# Altium schematic symbol library Transistors.SchLib: 80 symbols
Pins are listed as number, name and electrical type; pins without a type are passive.

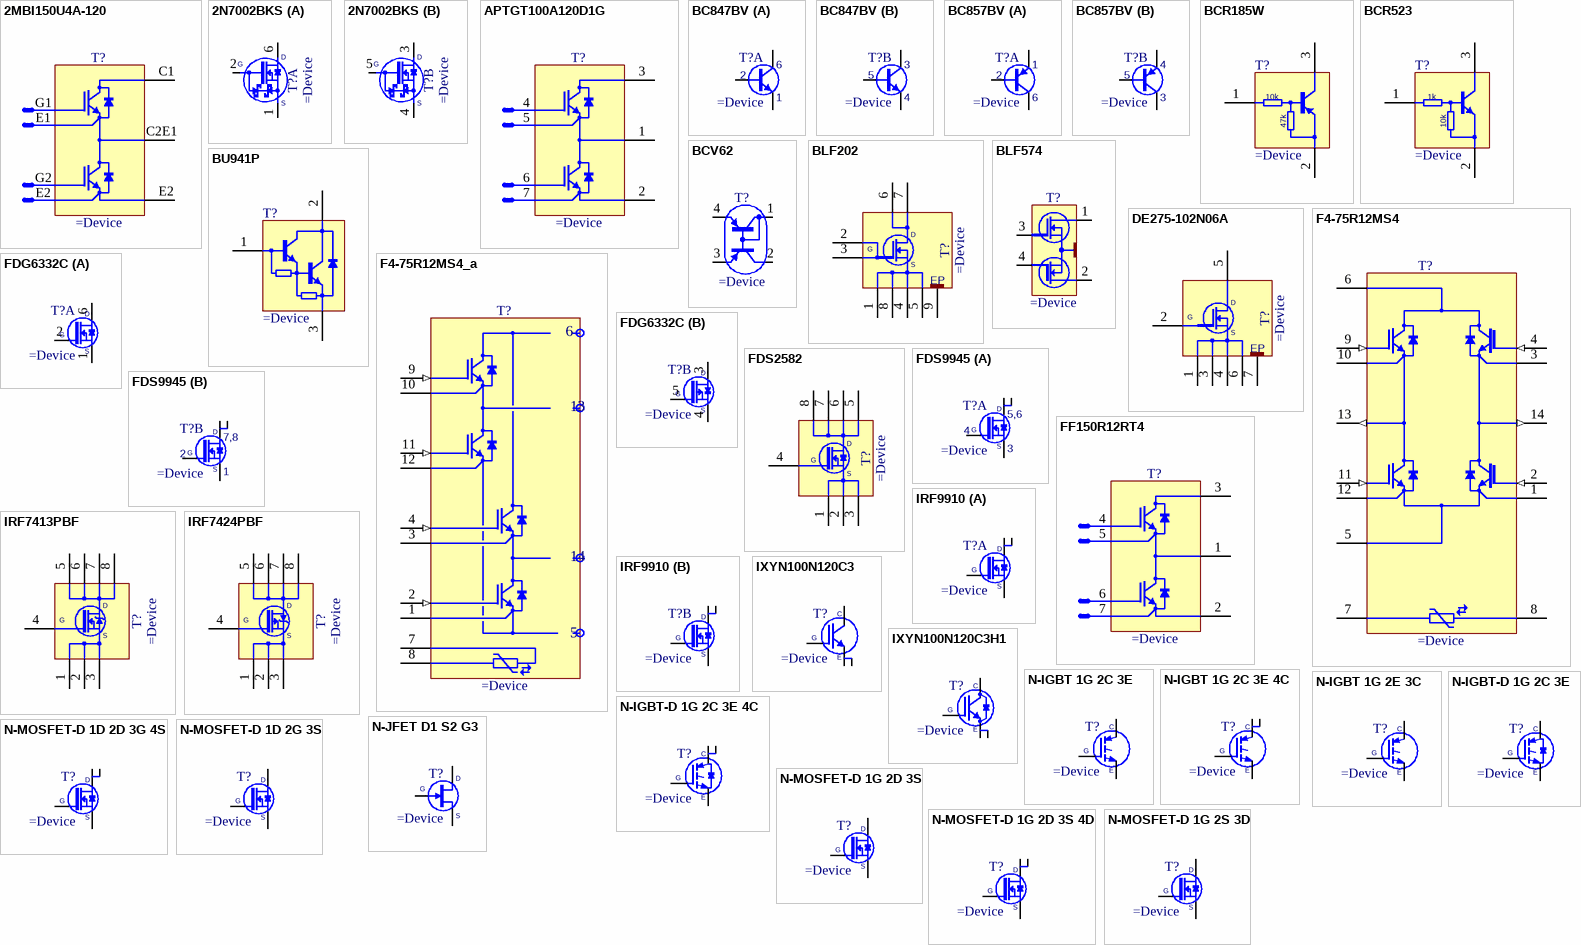
[diagram p0: symbols 2MBI150U4A-120 to N-MOSFET-D 1G 2S 3D]

## 2MBI150U4A-120
designator T?
150A 1200V, U Series (Gen.5), Trench-FS, N-Channel IGBTModule
pins: C1 (oc), C2E1 (oc), E2 (oe)
text: G1; E1; G2

## 2N7002BKS
designator T?
60 V, 300 mA Dual N-Channel Trench MOSFET
part A pins: 1 S, 2 G, 6 D
part B pins: 3 D, 4 S, 5 G

## APTGT100A120D1G
designator T?
Phase Leg Trench + Field Stop IGBTPower Module
pins: 1 C (oc), 2 E2 (oe), 3 C (oc)
text: 4; 5; 6; 7

## BC847BV
designator T?
45V, 100mA NPN General Purpose Double Transistor
part A pins: 1 E, 2 B, 6 C
part B pins: 3 C, 4 E, 5 B

## BC857BV
designator T?
45V, 100mA PNP General Purpose Double Transistor
part A pins: 1 E, 2 B, 6 C
part B pins: 3 C, 4 E, 5 B

## BCR185W
designator T?
PNP Silicon Digital Transistors
pins: 1 B, 2 E, 3 C
text: 10k; 47k

## BCR523
designator T?
NPN Silicon Digital Transistors
pins: 1 B, 2 E, 3 C
text: 1k; 10k

## BCV62
designator T?
Double PNP Transistor
pins: 1 C, 2 C, 3 E, 4 E

## BLF202
designator T?
HF/VHF power MOS transistor
pins: 1 S, 2 G, 3 S, 4 S, 5 D, 6 D, 7 D, 8 S, 9 EP

## BLF574
designator T?
HF / VHF power LDMOS transistor
pins: 1 D, 2 D, 3 S, 4 S

## BU941P
designator T?
High Voltage Ignition Coil Driver NPN Power Darlington Transistor
pins: 1 B, 2 C, 3 E

## DE275-102N06A
designator T?
6A, 1000V,  RF power MOSFET
pins: 1 S, 2 G, 3 S, 4 S, 5 D, 6 D, 7 EP

## F4-75R12MS4
designator T?
1200V 75A EconoDUAL 2 module With The Fast IGBT2 For High-Frequency Switching And NTC
pins: 1 E (oc), 2 G (in), 3 E (oe), 4 G (in), 5 EE (oe), 6 CC (oc), 7 NTC, 8 NTC, 9 G (in), 10 E (oe), 11 G (in), 12 E (oe), 13 EC (out), 14 EC (out)

## F4-75R12MS4_a
designator T?
1200V 75A EconoDUAL 2 module With The Fast IGBT2 For High-Frequency Switching And NTC
pins: 1 E (oc), 2 G (in), 3 E (oe), 4 G (in), 7 NTC, 8 NTC, 9 G (in), 10 E (oe), 11 G (in), 12 E (oe)
text: 6; 13; 14; 5

## FDG6332C
designator T?
20V N & P-Channel PowerTrench MOSFETs
part A pins: 1 S, 2 G, 6 D
part B pins: 3 D, 4 S, 5 G

## FDS2582
designator T?
150V 4.1A N-Channel PowerTrench® MOSFET
pins: 1 S, 2 S, 3 S, 4 G, 5 D, 6 D, 7 D, 8 D

## FDS9945
designator T?
60V N-Channel PowerTrench MOSFET
part A pins: 3 S, 4 G, 5 D, 6 D
part B pins: 1 S, 2 G, 7 D, 8 D
part A text: 5,6
part B text: 7,8

## FF150R12RT4
designator T?
34mm Module with Fast Trench/Fieldstop IGBT4 and Emetter Controlled 4 Diode
pins: 1 C (oc), 2 E2 (oe), 3 C (oc)
text: 4; 5; 6; 7

## IRF7413PBF
designator T?
30V 13A N-Channel HEXFET® Power MOSFET
pins: 1 S, 2 S, 3 S, 4 S, 5 D, 6 D, 7 D, 8 D
text: G

## IRF7424PBF
designator T?
30V 11A P-Channel HEXFET® Power MOSFET
pins: 1 S, 2 S, 3 S, 4 S, 5 D, 6 D, 7 D, 8 D
text: G

## IRF9910
designator T?
Dual SO-8 MOSFET For POL Cconverter
part A pins: 3 S, 4 G, 5 D, 6 D
part B pins: 1 S, 2 G, 7 D, 8 D

## IXYN100N120C3
designator T?
High-Speed IGBT for 20-50 kHz Switching
pins: 1 E, 2 G, 3 C, 4 E

## IXYN100N120C3H1
designator T?
High-Speed IGBT for 20-50 kHz Switching
pins: 1 E, 2 G, 3 C, 4 E

## N-IGBT 1G 2C 3E
designator T?
N-Channel IGBT
pins: 1 G, 2 C, 3 E

## N-IGBT 1G 2C 3E 4C
designator T?
N-Channel IGBT
pins: 1 G, 2 C, 3 E, 4 C

## N-IGBT 1G 2E 3C
designator T?
N-Channel IGBT
pins: 1 G, 2 E, 3 C

## N-IGBT-D 1G 2C 3E
designator T?
N-Channel IGBT With Diode
pins: 1 G, 2 C, 3 E

## N-IGBT-D 1G 2C 3E 4C
designator T?
N-Channel IGBT With Diode
pins: 1 G, 2 C, 3 E, 4 C

## N-JFET D1 S2 G3
designator T?
N-Channel JFET
pins: 1 D, 2 S, 3 G

## N-MOSFET-D 1D 2D 3G 4S
designator T?
N-Channel MOSFET
pins: 1 D, 2 D, 3 G, 4 S

## N-MOSFET-D 1D 2G 3S
designator T?
N-CHANNEL MOSFET WITH DIODE
pins: 1 D, 2 G, 3 S

## N-MOSFET-D 1G 2D 3S
designator T?
N-CHANNEL MOSFET WITH DIODE
pins: 1 G, 2 D, 3 S

## N-MOSFET-D 1G 2D 3S 4D
designator T?
N-CHANNEL MOSFET WITH DIODE AND 2 DRAIN
pins: 1 G, 2 D, 3 S, 4 D

## N-MOSFET-D 1G 2S 3D
designator T?
N-CHANNEL MOSFET WITH DIODE
pins: 1 G, 2 S, 3 D

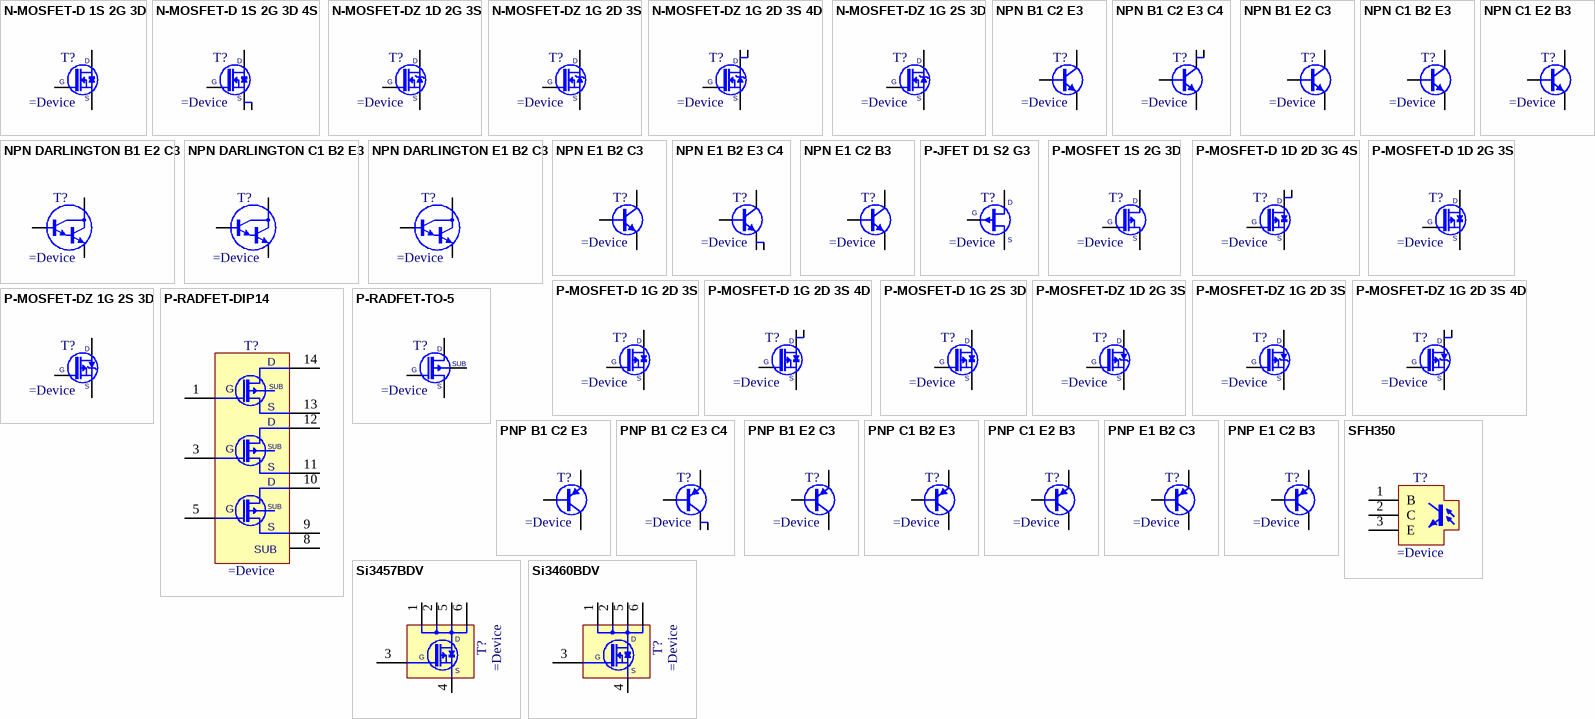
[diagram p1: symbols N-MOSFET-D 1S 2G 3D to Si3460BDV]

## N-MOSFET-D 1S 2G 3D
designator T?
N-CHANNEL MOSFET WITH DIODE
pins: 1 S, 2 G, 3 D

## N-MOSFET-D 1S 2G 3D 4S
designator T?
N-CHANNEL MOSFET WITH DIODE
pins: 1 S, 2 G, 3 D, 4 S

## N-MOSFET-DZ 1D 2G 3S
designator T?
N-CHANNEL MOSFET WITH ZENER DIODE
pins: 1 D, 2 G, 3 S

## N-MOSFET-DZ 1G 2D 3S
designator T?
N-CHANNEL MOSFET WITH ZENER DIODE
pins: 1 G, 2 D, 3 S

## N-MOSFET-DZ 1G 2D 3S 4D
designator T?
N-CHANNEL MOSFET WITH ZENER DIODE
pins: 1 G, 2 D, 3 S, 4 D

## N-MOSFET-DZ 1G 2S 3D
designator T?
N-CHANNEL MOSFET WITH ZENER DIODE
pins: 1 G, 2 S, 3 D

## NPN B1 C2 E3
designator T?
NPN Transistor
pins: 1 B, 2 C, 3 E

## NPN B1 C2 E3 C4
designator T?
NPN Transistor
pins: 1 B, 2 C, 3 E, 4 C

## NPN B1 E2 C3
designator T?
NPN Transistor
pins: 1 B, 2 E, 3 C

## NPN C1 B2 E3
designator T?
NPN Transistor
pins: 1 C, 2 B, 3 E

## NPN C1 E2 B3
designator T?
NPN Transistor
pins: 1 C, 2 E, 3 B

## NPN DARLINGTON B1 E2 C3
designator T?
NPN Darlington Transistor
pins: 1 B, 2 E, 3 C

## NPN DARLINGTON C1 B2 E3
designator T?
NPN Darlington Transistor
pins: 1 C, 2 B, 3 E

## NPN DARLINGTON E1 B2 C3
designator T?
NPN Darlington Transistor
pins: 1 E, 2 B, 3 C

## NPN E1 B2 C3
designator T?
NPN Transistor
pins: 1 E, 2 B, 3 C

## NPN E1 B2 E3 C4
designator T?
NPN Transistor
pins: 1 E, 2 B, 3 E, 4 C

## NPN E1 C2 B3
designator T?
NPN Transistor
pins: 1 E, 2 C, 3 B

## P-JFET D1 S2 G3
designator T?
P-Channel JFET
pins: 1 D, 2 S, 3 G

## P-MOSFET 1S 2G 3D
designator T?
P-CHANNEL MOSFET
pins: 1 S, 2 G, 3 D

## P-MOSFET-D 1D 2D 3G 4S
designator T?
P-Channel MOSFET
pins: 1 D, 2 D, 3 G, 4 S

## P-MOSFET-D 1D 2G 3S
designator T?
P-CHANNEL MOSFET WITH DIODE
pins: 1 D, 2 G, 3 S

## P-MOSFET-D 1G 2D 3S
designator T?
P-CHANNEL MOSFET WITH DIODE
pins: 1 G, 2 D, 3 S

## P-MOSFET-D 1G 2D 3S 4D
designator T?
P-CHANNEL MOSFET WITH DIODE AND 2 DRAIN
pins: 1 G, 2 D, 3 S, 4 D

## P-MOSFET-D 1G 2S 3D
designator T?
P-CHANNEL MOSFET WITH DIODE
pins: 1 G, 2 S, 3 D

## P-MOSFET-DZ 1D 2G 3S
designator T?
P-CHANNEL MOSFET WITH ZENER DIODE
pins: 1 D, 2 G, 3 S

## P-MOSFET-DZ 1G 2D 3S
designator T?
P-CHANNEL MOSFET WITH ZENER DIODE
pins: 1 G, 2 D, 3 S

## P-MOSFET-DZ 1G 2D 3S 4D
designator T?
P-CHANNEL MOSFET WITH ZENER DIODE
pins: 1 G, 2 D, 3 S, 4 D

## P-MOSFET-DZ 1G 2S 3D
designator T?
P-CHANNEL MOSFET WITH ZENER DIODE
pins: 1 G, 2 S, 3 D

## P-RADFET-DIP14
designator T?
P-Channel Radiation-Sensing Field-Effect Transistor Dosimeter in DIP14 Package
pins: 1 G, 3 G, 5 G, 8 SUB, 9 S, 10 D, 11 S, 12 D, 13 S, 14 D
1 alternate drawing of the same symbol

## P-RADFET-TO-5
designator T?
P-Channel Radiation-Sensing Field-Effect Transistor Dosimeter in TO-5 Package
pins: 1 D, 2 G, 3 S, 4 SUB
1 alternate drawing of the same symbol

## PNP B1 C2 E3
designator T?
PNP Transistor
pins: 1 B, 2 C, 3 E

## PNP B1 C2 E3 C4
designator T?
PNP Transistor
pins: 1 B, 2 C, 3 E, 4 C

## PNP B1 E2 C3
designator T?
PNP Transistor
pins: 1 B, 2 E, 3 C

## PNP C1 B2 E3
designator T?
PNP Transistor
pins: 1 C, 2 B, 3 E

## PNP C1 E2 B3
designator T?
PNP Transistor
pins: 1 C, 2 E, 3 B

## PNP E1 B2 C3
designator T?
PNP Transistor
pins: 1 E, 2 B, 3 C

## PNP E1 C2 B3
designator T?
PNP Transistor
pins: 1 E, 2 C, 3 B

## SFH350
designator T?
Phototransistor
pins: 1 B, 2 C, 3 E

## Si3457BDV
designator T?
-30V -3.7A P-Channel MOSFET
pins: 1 D, 2 D, 3 S, 4 S, 5 D, 6 D
text: G

## Si3460BDV
designator T?
N-Channel 20-V MOSFET
pins: 1 D, 2 D, 3 S, 4 S, 5 D, 6 D
text: G

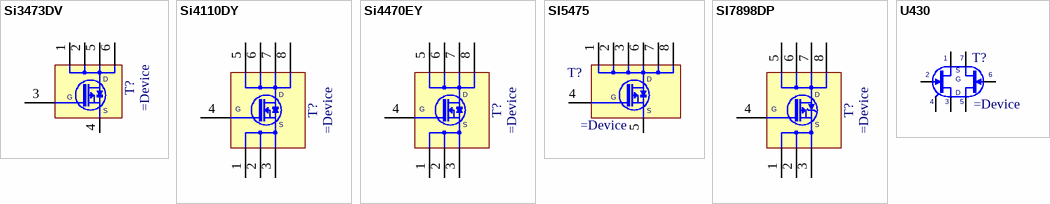
[diagram p2: symbols Si3473DV to U430]

## Si3473DV
designator T?
-12V -5.9A P-Channel MOSFET
pins: 1 D, 2 D, 3 S, 4 S, 5 D, 6 D
text: G

## Si4110DY
designator T?
80V 17.3A N-Channel TrenchFET Power MOSFET
pins: 1 S, 2 S, 3 S, 4 S, 5 D, 6 D, 7 D, 8 D
text: G

## Si4470EY
designator T?
60V 12.7A N-Channel MOSFET
pins: 1 S, 2 S, 3 S, 4 S, 5 D, 6 D, 7 D, 8 D
text: G

## SI5475
designator T?
-12V -6.6A P-Channel MOSFET
pins: 1 D, 2 D, 3 D, 4 G, 5 S, 6 D, 7 D, 8 D

## SI7898DP
designator T?
4.5A N-Channel 150-V (D-S) MOSFET
pins: 1 S, 2 S, 3 S, 4 S, D, D, D, D
text: 5; 6; 7; 8; G

## U430
designator T?
Matched Pairs N-Channel JFET
pins: 1 S, 2 G, 3 D, 4 CASE, 5 S, 6 G, 7 S